# Altium footprint library 1_to_5_Pin.PcbLib: 174 footprints (part 8 of 11)
Each footprint in its own frame and in the unit in brackets; x right, y up, seen from the top. Pads: shape width x height; smd on the part's side, far side on the other; paste and mask are expansions set on the pad; w line width, h text height; cw(c..) or ccw(c..) is an arc to the next point about the centre after c.
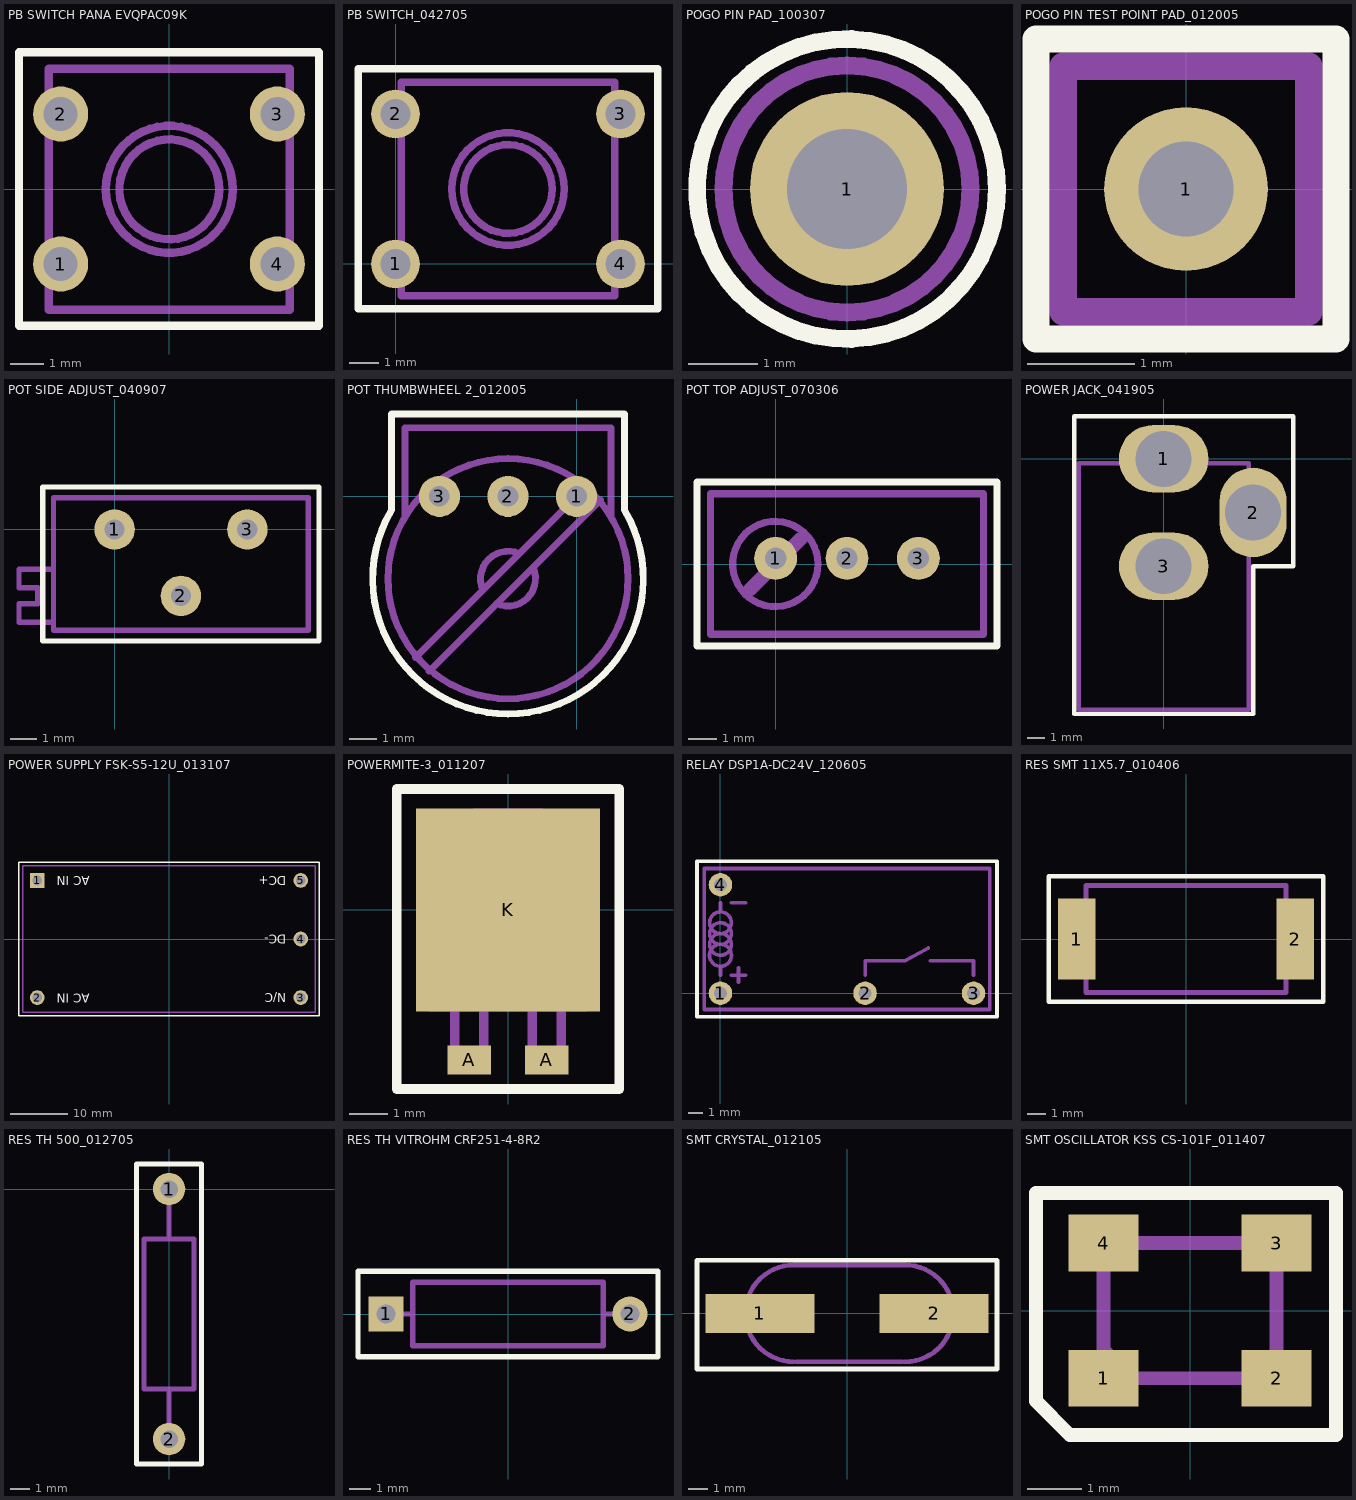
[diagram p7: the footprints below, top view; thin cyan lines are the x and y axes]

## PB SWITCH PANA EVQPAC09K [mil] "TH"
height 374.02
pads (4):
  round 65 hole 40: 1(-127.95,-88.58) 2(-127.95,88.58) 3(127.95,88.58) 4(127.95,-88.58)
Top Overlay:
  lines w10: -177.17,-161.42 -177.17,0 -177.17,161.42 0,161.42 177.17,161.42 177.17,0 177.17,-161.42 0,-161.42 -177.17,-161.42
Assembly Outline:
  circle w10: c0.39,-0.39 r75
  circle w10: c0.39,-0.39 r59
  lines w10: -142.21,-142.79 142.79,-142.79 142.79,142.21 -142.21,142.21 -142.21,-142.79
Assembly Designator:
  text ".Designator" at -37.4,-19.68 h40
Assembly Comment:
  text ".Comment" at -124.02,-211.61 h40

## PB SWITCH_042705 [mil] "TH"
height 180
pads (4):
  round 65 hole 40: 1(0,0) 2(0,200) 3(300,200) 4(300,0)
Top Overlay:
  lines w10: -50,-60 -50,260 150,260 350,260 350,-60 -50,-60
Assembly Outline:
  circle w10: c150,100 r59
  circle w10: c150,100 r75
  lines w10: 7.39,-42.39 7.39,242.61 292.39,242.61 292.39,-42.39 7.39,-42.39
Assembly Designator:
  text ".Designator" at 110,80 h40
Assembly Comment:
  text ".Comment" at 35,-105 h40

## POGO PIN PAD_100307 [mil] "TH"
height 750
pads (1):
  round 110 hole 68: 1(0,0)
Top Overlay:
  circle w10: c0,0 r85
Assembly Outline:
  circle w10: c0,0 r70
Assembly Designator:
  text ".Designator" at -50,-145 h40
Assembly Comment:
  text ".Comment" at -115,-195 h40

## POGO PIN TEST POINT PAD_012005 [mil] "FEATURE SMT PCB"
pads (1):
  round 60 hole 35: 1(0,0)
Top Overlay:
  lines w10: -55,-55 55,-55 55,55 0,55 -55,55 -55,-55
Assembly Outline:
  lines w10: -45,-45 45,-45 45,45 0,45 -45,45 -45,-45
Assembly Designator:
  text ".Designator" at -40,55 h40
Assembly Comment:
  text ".Comment" at -65,-95 h40

## POT SIDE ADJUST_040907 [mil] "TH"
height 393.7
pads (3):
  round 60 hole 30: 1(0,0) 2(98.43,-98.43) 3(196.85,0)
Top Overlay:
  lines w8: -106.3,-165.35 98.43,-165.35 303.15,-165.35 303.15,62.99 98.43,62.99 -106.3,62.99 -106.3,-165.35
Assembly Outline:
  lines w8: -90.55,-137.8 -141.73,-137.8 -141.73,-110.24 -114.17,-110.24 -114.17,-98.43 -114.17,-86.61 -141.73,-86.61 -141.73,-59.06 -90.55,-59.06 ; -90.55,-149.61 -90.55,47.24 287.4,47.24 287.4,-98.43 287.4,-149.61 -90.55,-149.61
Assembly Designator:
  text ".Designator" at 70.87,-59.06 h40
Assembly Comment:
  text ".Comment" at -74.8,-216.54 h40

## POT THUMBWHEEL 2_012005 [mil] "TH"
height 160
pads (3):
  round 60 hole 30: 1(0,0) 2(-100,0) 3(-200,0)
Top Overlay:
  lines w10: -269.99,-19.99 ccw(c-99.99,-119.99) 70.01,-19.99 70.01,120.01 20.01,120.01 -269.99,120.01 -269.99,-19.99
Assembly Outline:
  circle w10: c-100,-120 r175
  lines w10: -250,-30 -250,100 -100,100 50,100 50,-30 ; -234.99,-234.99 -99.99,-99.99 15.01,15.01 ; -214.99,-254.99 -99.99,-139.99 35.01,-4.99 ; -136.47,-136.41 cw(c-99.99,-119.99) -83.49,-83.56 ; -116.5,-156.43 ccw(c-99.99,-119.99) -63.48,-103.67
Assembly Designator:
  text ".Designator" at -160,-75 h40
Assembly Comment:
  text ".Comment" at -250,-140 h40

## POT TOP ADJUST_070306 [mil] "TH"
height 377.95
pads (3):
  round 60 hole 30: 1(0,7.87) 2(100,7.87) 3(200,7.87)
Top Overlay:
  lines w10: -110,-115 310,-115 310,60 310,115 100,115 -110,115 -110,60 -110,-115
Assembly Outline:
  circle w10: c-0.36,0 r59.69
  lines w10: -90.94,7.87 -90.94,98.43 ; -37.4,98.43 -90.94,98.43 ; 100,98.43 -90.94,98.43 ; -90.94,98.43 290.94,98.43 290.94,-98.43 -90.94,-98.43 -90.94,98.43
  lines w20: -35,-35 0,0 35,35
Assembly Designator:
  text ".Designator" at 50,-15 h40
Assembly Comment:
  text ".Comment" at -125,-175 h40

## POWER JACK_041905 [mil] "TH"
height 440
pads (3):
  oval 200x150 hole 125: 1(0,0) 3(0,-240)
  oval 150x200 hole 125: 2(200,-120)
Top Overlay:
  lines w10: -200,-570 -200.01,95 289.99,95 289.99,-240 199.99,-240 200,-570 -200,-570
Assembly Outline:
  lines w10: -190.01,-560 189.99,-560 189.99,-10 -190.01,-10 -190.01,-560
Assembly Designator:
  text ".Designator" at -60,-400 h40
Assembly Comment:
  text ".Comment" at -170,-530 h40

## POWER SUPPLY FSK-S5-12U_013107 [mil] "TH"
height 600
pads (5):
  rect 100x100 hole 67: 1(-900,400)
  round 100 hole 67: 2(-900,-400) 3(900,-400) 4(900,0) 5(900,400)
Top Overlay:
  lines w10: -1025,-525 0,-525 1025,-525 1025,0 1025,525 0,525 -1025,525 -1025,0 -1025,-525
  text "N/C" at 800,-370 h60
  text "DC+" at 800,430 h60
  text "DC-" at 800,30 h60
  text "AC IN" at -540,430 h60
  text "AC IN" at -540,-375 h60
Assembly Outline:
  lines w10: -1000,-500 0,-500 1000,-500 1000,0 1000,500 0,500 -1000,500 -1000,0 -1000,-500
Assembly Designator:
  text ".Designator" at -50,-15 h40
Assembly Comment:
  text ".Comment" at -130,-95 h40

## POWERMITE-3_011207 [mil] "SMT"
height 44.02
pads (3):
  rect 45x30 smd: A(-40,-155) A(40,-155)
  rect 190x210 smd: K(0,0)
Top Overlay:
  lines w10: -115,-185 -115,35 -115,125 0,125 115,125 115,35 115,0 115,-185 5,-185 -115,-185
Assembly Outline:
  lines w10: -65,-100 -80,-100 ; -55,-100 -55,-155 -40,-155 -25,-155 -25,-100 ; -35,75 -35,100 0,100 35,100 35,75 ; 0,75 -80,75 ; 25,-100 25,-155 40,-155 55,-155 55,-100 ; -80,-100 -80,75 ; -80,-100 80,-100 80,-75 80,75 -80,75
Assembly Designator:
  text ".Designator" at -40,-15 h40
Assembly Comment:
  text ".Comment" at -100,-240 h40

## RELAY DSP1A-DC24V_120605 [mil] "TH"
height 412
pads (4):
  round 65 hole 35: 1(0,0) 2(400,0) 3(700,0) 4(0,300)
Top Overlay:
  lines w10: -65,-65 715,-65 765,-65 765,365 -65,365 -65,-65
Assembly Outline:
  circle w10: c0,195 r30
  circle w10: c0,105 r30.41
  circle w10: c0,135 r30
  circle w10: c0,165 r30
  lines w10: -45,150 -45,-45 ; 0,50 0,75 ; 0,225 0,250 ; 30,50 70,50 ; 30,250 70,250 ; 49.8,29.92 49.8,69.92 ; 400,50 400,90 510,90 575,125 ; 580,90 700,90 700,50 ; -45,-45 745,-45 745,345 -45,345 -45,-45
Assembly Designator:
  text ".Designator" at 275,145 h40
Assembly Comment:
  text ".Comment" at 180,-115 h40

## RES SMT 11X5.7_010406 [mil] "SMT"
height 210
pads (2):
  rect 80x175 smd: 1(-235,0) 2(235,0)
Top Overlay:
  lines w10: -295,-135 0,-135 295,-135 295,0 295,135 0,135 -295,135 -295,0 -295,-135
Assembly Outline:
  lines w10: -215,-50 -235,-50 -235,0 -235,50 -215,50 ; 0,115 -215,115 ; 215,-50 235,-50 235,0 235,50 215,50 ; -215,115 -215,-115 215,-115 215,115 -215,115
Assembly Designator:
  text ".Designator" at -35,-15 h40
Assembly Comment:
  text ".Comment" at -180,-185 h40

## RES TH 500_012705 [mil] "TH"
height 100
pads (2):
  round 65 hole 35: 1(0,0) 2(0,-500)
Top Overlay:
  lines w10: -65,-550 -65,50 0,50 65,50 65,-550 -65,-550
Assembly Outline:
  lines w10: 0,-500 0,-400 ; 0,-100 0,0 ; -50,-400 -50,-100 50,-100 50,-250 50,-400 -50,-400
Assembly Designator:
  text ".Designator" at -15,-219 h40
Assembly Comment:
  text ".Comment" at -108,-108 h40

## RES TH VITROHM CRF251-4-8R2 [mil] "TH"
height 118.11
pads (2):
  rect 65x65 hole 35: 1(-226.38,0)
  round 65 hole 35: 2(226.38,0)
Top Overlay:
  lines w10: -278.54,-79.72 -278.54,0 -278.54,79.72 0,79.72 278.54,79.72 278.54,0 278.54,-79.72 0,-79.72 -278.54,-79.72
Assembly Outline:
  lines w10: -226.38,0 -177.17,0 ; 0,59.06 177.17,59.06 177.17,0 ; 17.72,59.06 -177.17,59.06 -177.17,0 ; 226.38,0 177.17,0 ; -177.17,-59.05 -177.17,0 ; -177.17,-59.05 0,-59.05 ; -177.17,-59.05 -177.17,0 ; -177.17,-59.05 0,-59.05 ; 0,-59.05 177.17,-59.05 177.17,0
Assembly Designator:
  text ".Designator" at -53.15,-14.76 h40
Assembly Comment:
  text ".Comment" at -177.17,-132.87 h40

## SMT CRYSTAL_012105 [mil] "SMT"
height 160
pads (2):
  rect 225x80 smd: 1(-180,0) 2(180,0)
Top Overlay:
  lines w10: -310,-115 -310,110 310,110 310,-115 -310,-115
Assembly Outline:
  lines w10: -208,-25 -240,-25 -240,30 -206,30 ; -110,-100 cw(c-110,0) -110,100 120,100 cw(c120,0) 120,-100 ; -105,-100 115,-100 ; 216,30 250,30 250,-25 217,-25
Assembly Designator:
  text ".Designator" at -65,40 h40
Assembly Comment:
  text ".Comment" at -180,-20 h40

## SMT OSCILLATOR KSS CS-101F_011407 [mm] "SMT"
height 0.6
pads (4):
  rect 1.3x1.05 smd: 1(-1.6,-1.25) 2(1.6,-1.25) 3(1.6,1.25) 4(-1.6,1.25)
Top Overlay:
  lines w0.254: -2.85,-1.675 -2.85,2.175 -2.7,2.175 -1.65,2.175 0,2.175 1.65,2.175 2.7,2.175 2.7,0.95 2.7,0 2.7,-0.95 2.7,-2.175 2.7,-2.3 1.375,-2.3 -2.225,-2.3 -2.85,-1.675
Assembly Outline:
  lines w0.203: -1.6,1.25 1.6,1.25
  lines w0.254: 0,1.25 1.6,1.25 ; 1.6,1.25 -1.6,1.25 -1.6,-0.725 -1.525,-0.8 -1.075,-1.25 1.475,-1.25 1.6,-1.25 1.6,1.25
Assembly Designator:
  text ".Designator" at -0.675,-0.45 h1.02
Assembly Comment:
  text ".Comment" at -2.75,-3.65 h1.02